# Altium schematic symbol library Buck_and_Inverter.SchLib: 4 symbols
Pins are listed as number, name and electrical type; pins without a type are passive.

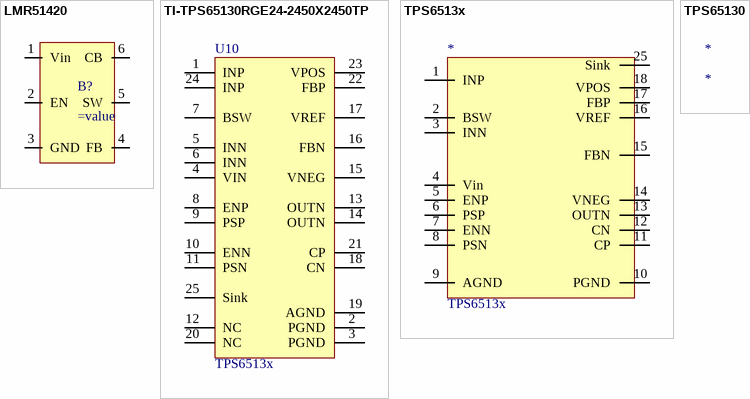
[diagram p0: symbols LMR51420 to TPS65130]

## LMR51420
designator B?
pins: 1 Vin, 2 EN, 3 GND, 4 FB, 5 SW, 6 CB

## TI-TPS65130RGE24-2450X2450TP
designator U10, comment TPS6513x
Boost Inverting Buck-Boost Voltage Converter with 2.7 to 5.5 V Input and -15 to 15 V Output, -40 to 85 degC, 24-Pin VQFN (RGE), Green (RoHS & no Sb/Br); PartNumber: TPS65130RGER; Manufacturer: Texas Instruments; Vout2(V): -15 to -2; Regulated Outputs(#): 2; Switching Frequency(Typ)(kHz): 1400; Vout(Max)(V): 15; Vin(Min)(V): 2.7; SubFamily: Step-Up Regulator; Vin(Max)(V): 5.5; Topology: Boost, Inverting Buck-Boost; ComponentLink2URL: http://www.ti.com/litv/pdf/mpqf124f; ComponentLink2Description: Package Specification; DatasheetVersion: SLVS493B; ComponentLink1Description: Datasheet; Code_JEDEC: MO-220; PackageVersion: revG, Jul-2011; ComponentLink1URL: http://www.ti.com/general/docs/lit/getliterature.tsp?genericPartNumber=TPS65130&fileType=pdf; Eco-Plan: Green (RoHS & no Sb/Br); PackageDescription: 24-Pin Plastic Quad Flatpack No-Lead, 4 x 4 mm Body, 0.5 mm Pitch; PackageReference: RGE0024B; Vout(Min)(V): -15; Mounting Technology: Surface Mount
footprint RGE0024B_V (QFN, 24-Leads, Body 4x4mm, Pitch 0.5mm, Thermal Pad 2.45x2.45mm)
footprint TPS6513x (boost and inverter)
footprint TPS6513x (boost and inverter)
footprint TPS6513x (boost and inverter)
footprint TPS6513final (boost and inverter)
pins: 1 INP "Boost converter switch input.", 2 PGND "Power ground pin", 3 PGND "Power ground pin", 4 VIN "Control supply input", 5 INN "Inverting converter switch input", 6 INN "Inverting converter switch input", 7 BSW "Gate control pin for external battery switch. This pin goes low when ENP is set high.", 8 ENP "Enable pin for the positive output voltage (0 V: disabled, VIN: enabled)", 9 PSP "Power-save mode enable for boost converter stage (0 V: disabled, VIN: enabled)", 10 ENN "Enable pin for the negative output voltage (0 V: disabled, VIN: enabled)", 11 PSN "Power-save mode enable for inverter stage (0 V: disabled, VIN: enabled)", 12 NC "Not connected", 13 OUTN "Inverting converter switch output.", 14 OUTN "Inverting converter switch output.", 15 VNEG "Negative output voltage sense input", 16 FBN "Feedback pin for the negative output voltage divider", 17 VREF "Reference output voltage. Bypass this pin with a 220-nF capacitor to ground. Connect the lower resistor of the negative output voltage divider to this pin", 18 CN "Compensation pin for inverting converter control", 19 AGND "Analog ground pin", 20 NC "Not connected", 21 CP "Compensation pin for boost converter control", 22 FBP "Feedback pin for the positive output voltage divider", 23 VPOS "Positive output voltage sense input", 24 INP "Boost converter switch input.", 25 Sink "Power-save mode enable for inverter stage (0 V: disabled, VIN: enabled)"

## TPS6513x
designator *
pins: 1 INP, 2 BSW, 3 INN, 4 Vin, 5 ENP, 6 PSP, 7 ENN, 8 PSN, 9 AGND, 10 PGND, 11 CP, 12 CN, 13 OUTN, 14 VNEG, 15 FBN, 16 VREF, 17 FBP, 18 VPOS, 25 Sink

## TPS65130
designator *